# Altium footprint library PCB - Leaded - DPAK - Infineon PG-TO252-3.PcbLib: 1 footprints
Each footprint in its own frame and in the unit in brackets; x right, y up, seen from the top. Pads: shape width x height; smd on the part's side, far side on the other; paste and mask are expansions set on the pad; w line width, h text height; cw(c..) or ccw(c..) is an arc to the next point about the centre after c.
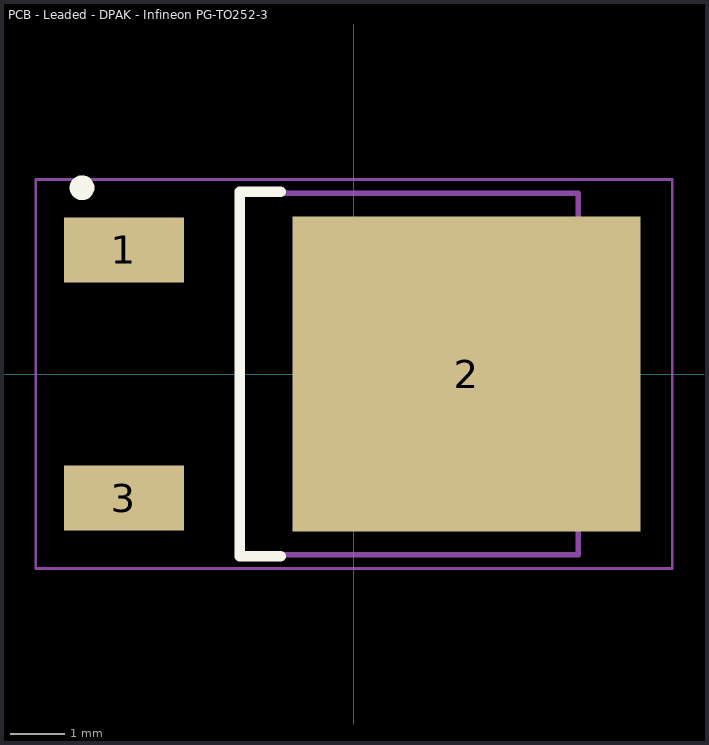
[diagram p0: the footprint, top view; thin cyan lines are the x and y axes]

## PCB - Leaded - DPAK - Infineon PG-TO252-3 [mm]
height 2.35
pads (3):
  rect 2.2x1.2 smd: 1(-4.23,2.28) 3(-4.23,-2.28)
  rect 6.4x5.8 smd: 2(2.07,0)
Top Overlay:
  circle w0.254: c-5,3.425 r0.1
  lines w0.2: -1.35,-3.35 -2.1,-3.35 -2.1,3.35 -1.35,3.35
Mechanical 13:
  lines w0.1: -2.1,-3.325 4.12,-3.325 4.12,3.325 -2.1,3.325 -2.1,-3.325
Mechanical 15:
  lines w0.05: -5.85,-3.575 5.85,-3.575 5.85,3.575 -5.85,3.575 -5.85,-3.575
  lines w0.1: -0.5,0 0.5,0 ; 0,-0.5 0,0.5
3D body "SW3DPS-TO-252-DEFAULT.STEP": height 2.3, standoff 0, extent -4.898,-3.29 4.802,3.29
3D body: height 2.35, standoff 0, extent -2.1,-3.325 4.12,3.325